# Altium footprint library PCB_Potentiostat_revA.PcbLib: 38 footprints (part 2 of 3)
Each footprint in its own frame and in the unit in brackets; x right, y up, seen from the top. Pads: shape width x height; smd on the part's side, far side on the other; paste and mask are expansions set on the pad; w line width, h text height; cw(c..) or ccw(c..) is an arc to the next point about the centre after c.
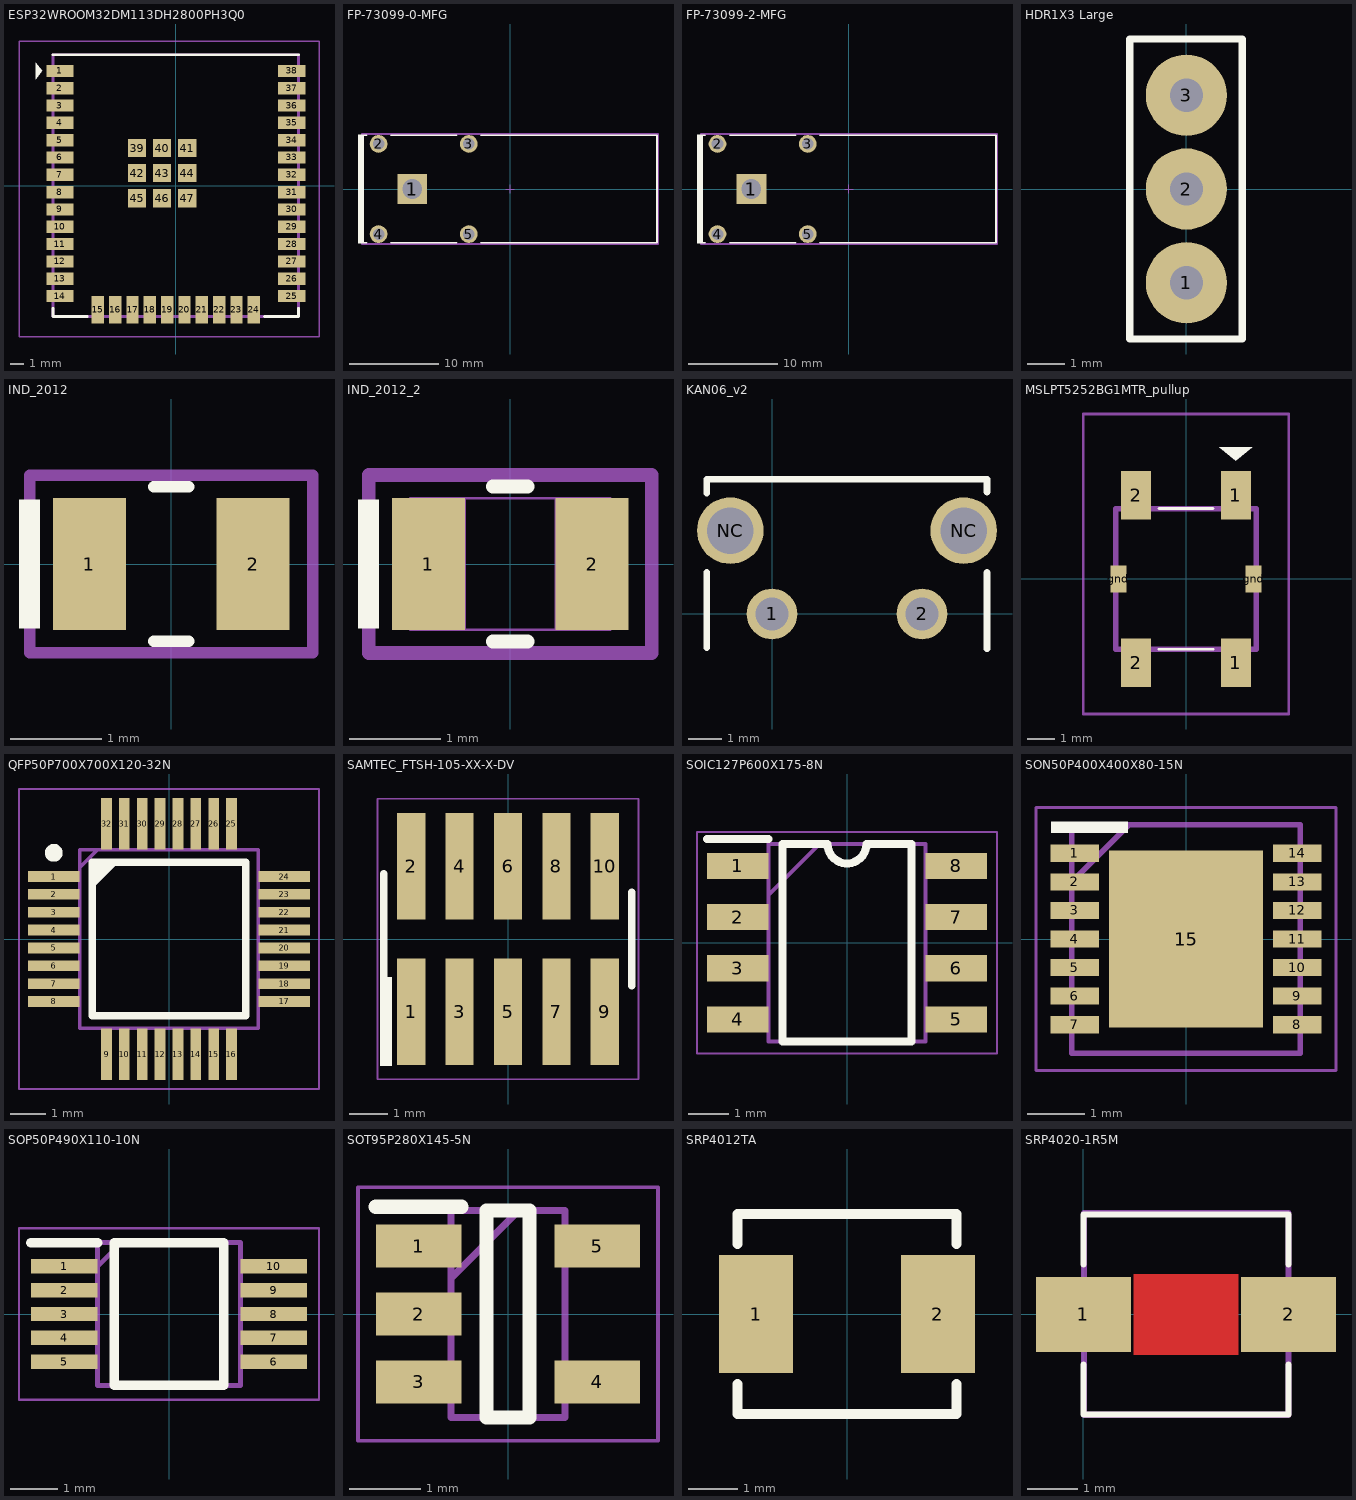
[diagram p1: the footprints below, top view; thin cyan lines are the x and y axes]

## ESP32WROOM32DM113DH2800PH3Q0 [mm]
height 1.5
pads (47):
  rect 2x0.9 smd: 1(-8.5,8.41) 2(-8.5,7.14) 3(-8.5,5.87) 4(-8.5,4.6) 5(-8.5,3.33) 6(-8.5,2.06) 7(-8.5,0.79) 8(-8.5,-0.48) 9(-8.5,-1.75) 10(-8.5,-3.02) 11(-8.5,-4.29) 12(-8.5,-5.56) 13(-8.5,-6.83) 14(-8.5,-8.1) 25(8.5,-8.1) 26(8.5,-6.83) 27(8.5,-5.56) 28(8.5,-4.29) 29(8.5,-3.02) 30(8.5,-1.75) 31(8.5,-0.48) 32(8.5,0.79) 33(8.5,2.06) 34(8.5,3.33) 35(8.5,4.6) 36(8.5,5.87) 37(8.5,7.14) 38(8.5,8.41)
  rect 0.9x2 smd: 15(-5.715,-9.1) 16(-4.445,-9.1) 17(-3.175,-9.1) 18(-1.905,-9.1) 19(-0.635,-9.1) 20(0.635,-9.1) 21(1.905,-9.1) 22(3.175,-9.1) 23(4.445,-9.1) 24(5.715,-9.1)
  rect 1.33x1.33 smd: 39(-2.835,2.745) 40(-1,2.745) 41(0.835,2.745) 42(-2.835,0.91) 43(-1,0.91) 44(0.835,0.91) 45(-2.835,-0.925) 46(-1,-0.925) 47(0.835,-0.925)
Top Overlay:
  region: -9.779,8.407 -10.262,9.017 -10.262,7.798
  lines w0.203: -9,-9 -9,-9.6 -6.5,-9.6 ; -9,9.6 9,9.6 ; 6.5,-9.6 9,-9.6 9,-9
Mechanical 13:
  lines w0.1: -11.5,-11.1 -11.5,10.6 10.5,10.6 10.5,-11.1 -11.5,-11.1
  lines w0.2: -9,-9.6 9,-9.6 9,9.6 -9,9.6 -9,-9.6
3D body "ESP32-WROOM-32D_M113DH2800PH3Q0_.stp": height 3.1, standoff 0, extent -9,-9.6 9,15.9

## FP-73099-0-MFG [mm]
height 1.5
pads (5):
  rect 3.35x3.35 hole 2.2 paste-1000 mask+0: 1(-11,0)
  round 2 hole 1.3 paste-1000 mask+0: 2(-14.8,5.08) 3(-4.64,5.08) 4(-14.8,-5.08) 5(-4.64,-5.08)
Top Overlay:
  rectangle: -17.12,-6.147 -16.459,6.147
  lines w0.2: -16.175,-6.064 -16.564,-6.064 -16.564,6.064 -16.175,6.064 ; -13.425,-6.064 -6.015,-6.064 ; -13.425,6.064 -6.015,6.064 ; -3.265,-6.064 16.564,-6.064 16.564,6.064 -3.265,6.064
Mechanical 13:
  lines w0.1: -0.5,0 0.5,0 ; 0,-0.5 0,0.5
  lines w0.2: -16.663,-6.18 -16.663,6.18 16.663,6.18 16.663,-6.18 -16.663,-6.18
  text ".Designator" at 0,0.011 h1
Mechanical 15:
  lines w0.2: -16.663,-6.18 -16.663,6.18 16.663,6.18 16.663,-6.18 -16.663,-6.18
3D body "Conn_Pomona_Electronics_73099-0_eec.STEP": height 11.66, standoff -3.4, extent -16.5,-6 16.5,6

## FP-73099-2-MFG [mm]
height 1.5
pads (5):
  rect 3.35x3.35 hole 2.2 paste-1000 mask+0: 1(-10.986,0)
  round 2 hole 1.3 paste-1000 mask+0: 2(-14.795,5.08) 3(-4.635,5.08) 4(-14.795,-5.08) 5(-4.635,-5.08)
Top Overlay:
  rectangle: -17.105,-6.147 -16.445,6.147
  lines w0.2: -16.171,-6.058 -16.561,-6.058 -16.561,6.058 -16.171,6.058 ; -13.42,-6.058 -6.011,-6.058 ; -13.42,6.058 -6.011,6.058 ; -3.26,-6.058 16.561,-6.058 16.561,6.058 -3.26,6.058
Mechanical 13:
  lines w0.1: -0.5,0 0.5,0 ; 0,-0.5 0,0.5
  lines w0.2: -16.661,-6.18 -16.661,6.18 16.661,6.18 16.661,-6.18 -16.661,-6.18
  text ".Designator" at 0,0.011 h1
Mechanical 15:
  lines w0.2: -16.661,-6.18 -16.661,6.18 16.661,6.18 16.661,-6.18 -16.661,-6.18
3D body "Conn_Pomona_Electronics_73099-2_eec.STEP": height 11.66, standoff -3.4, extent -16.5,-6 16.5,6

## HDR1X3 Large [mm] "Connector; Header; 5x2 Position"
height 1.5
pads (3):
  round 2.2 hole 0.9: 1(0,-2.54) 2(0,0) 3(0,2.54)
Top Overlay:
  lines w0.2: -1.532,-4.064 -1.532,4.064 1.508,4.064 1.508,-4.064 -1.532,-4.064

## IND_2012 [mm]
height 1.5
pads (2):
  rect 0.803x1.45 smd: 1(-0.902,0) 2(0.902,0)
Top Overlay:
  rectangle: -1.676,-0.711 -1.448,0.711
  lines w0.127: -0.192,-0.852 0.192,-0.852 ; -0.192,0.852 0.192,0.852
Mechanical 13:
  lines w0.127: -1.557,-0.979 1.557,-0.979 1.557,0.979 -1.557,0.979 -1.557,-0.979
3D body "74479023.stp": height 1.25, standoff 0, extent -1,-0.625 1,0.625

## IND_2012_2 [mm]
pads (2):
  rect 0.803x1.45 smd: 1(-0.902,0) 2(0.902,0)
Top Overlay:
  rectangle: -1.676,-0.711 -1.448,0.711
  lines w0.152: -0.192,-0.852 0.192,-0.852 ; -0.192,0.852 0.192,0.852
Mechanical 13:
  circle w0: c-0.775,0 r0.076
  lines w0.025: -1.1,-0.725 -1.1,0.725 ; -1.1,-0.725 1.1,-0.725 ; -1.1,-0.725 -0.5,-0.725 -0.5,0.725 -1.1,0.725 ; -1.1,-0.725 -1.1,0.725 ; -1.1,0.725 1.1,0.725 ; 1.1,-0.725 1.1,0.725 ; 1.1,-0.725 1.1,0.725 ; 1.1,-0.725 0.5,-0.725 0.5,0.725 1.1,0.725
  lines w0.152: -1.557,-0.979 1.557,-0.979 1.557,0.979 -1.557,0.979 -1.557,-0.979

## KAN06_v2 [mm]
height 1.5
pads (4):
  round 1.524 hole 1: 1(0,0) 2(4.5,0)
  round 2 hole 1.4: NC(-1.25,2.5) NC(5.75,2.5)
Top Overlay:
  lines w0.203: -1.956,-1.016 -1.956,1.245 ; -1.956,3.632 -1.956,4.039 6.452,4.039 6.452,3.658 ; 6.452,-1.041 6.452,1.245
Mechanical 13:
  text "BOARD" at -0.025,-1.93 h1.02
3D body "KAN0631 - 0731B.stp": height 6, standoff -5, extent -1.939,-6.275 6.45,4.025

## MSLPT5252BG1MTR_pullup [mm]
height 1.5
pads (6):
  rect 1.1x1.8 smd: 1(1.85,-3.1) 1(1.85,3.1) 2(-1.85,-3.1) 2(-1.85,3.1)
  rect 0.6x1 smd: gnd(-2.5,0) gnd(2.5,0)
Top Overlay:
  region: 1.847,4.379 2.457,4.862 1.238,4.862
  lines w0.1: -1,-2.6 1,-2.6 ; -1,2.6 1,2.6
Mechanical 13:
  lines w0.1: -3.8,-5 -3.8,6.1 3.8,6.1 3.8,-5 -3.8,-5
  lines w0.2: -2.6,-2.6 -2.6,2.6 2.6,2.6 2.6,-2.6 -2.6,-2.6
3D body "MSLPT5252BG1MTR.stp": height 1.8, standoff 0, extent -2.74,-3.89 2.74,3.89

## QFP50P700X700X120-32N [mm]
height 1.5
pads (32):
  rect 1.45x0.3 smd: 1(-3.225,1.75) 2(-3.225,1.25) 3(-3.225,0.75) 4(-3.225,0.25) 5(-3.225,-0.25) 6(-3.225,-0.75) 7(-3.225,-1.25) 8(-3.225,-1.75) 17(3.225,-1.75) 18(3.225,-1.25) 19(3.225,-0.75) 20(3.225,-0.25) 21(3.225,0.25) 22(3.225,0.75) 23(3.225,1.25) 24(3.225,1.75)
  rect 0.3x1.45 smd: 9(-1.75,-3.225) 10(-1.25,-3.225) 11(-0.75,-3.225) 12(-0.25,-3.225) 13(0.25,-3.225) 14(0.75,-3.225) 15(1.25,-3.225) 16(1.75,-3.225) 25(1.75,3.225) 26(1.25,3.225) 27(0.75,3.225) 28(0.25,3.225) 29(-0.25,3.225) 30(-0.75,3.225) 31(-1.25,3.225) 32(-1.75,3.225)
Top Overlay:
  circle w0.25: c-3.226,2.413 r0.125
  region: -2.15,2.15 -2.159,1.397 -1.397,2.159
  lines w0.2: -2.15,-2.15 -2.15,2.15 2.15,2.15 2.15,-2.15 -2.15,-2.15
Mechanical 13:
  lines w0.05: -4.2,-4.2 -4.2,4.2 4.2,4.2 4.2,-4.2 -4.2,-4.2
  lines w0.1: -2.5,2 -2,2.5 ; -2.5,-2.5 -2.5,2.5 2.5,2.5 2.5,-2.5 -2.5,-2.5
3D body "ADS131A02IPBS.stp": height 1.12, standoff 0.03, extent -3.5,-3.5 3.5,3.5

## SAMTEC_FTSH-105-XX-X-DV [mm]
height 1.5
pads (10):
  rect 0.74x2.79 smd: 1(-2.54,-1.905) 2(-2.54,1.905) 3(-1.27,-1.905) 4(-1.27,1.905) 5(0,-1.905) 6(0,1.905) 7(1.27,-1.905) 8(1.27,1.905) 9(2.54,-1.905) 10(2.54,1.905)
Top Overlay:
  rectangle: -3.353,-3.327 -3.048,-0.991
  lines w0.2: -3.26,-1.715 -3.26,1.715 ; 3.251,-1.219 3.251,1.219
Mechanical 13:
  lines w0.05: -3.425,-3.68 -3.425,3.68 3.425,3.68 3.425,-3.68 -3.425,-3.68
3D body "step_temp.STEP": height 5.94, standoff -0.03, extent -3.175,-2.921 3.175,2.921

## SOIC127P600X175-8N [mm]
pads (8):
  rect 1.525x0.65 smd: 1(-2.712,1.905) 2(-2.712,0.635) 3(-2.712,-0.635) 4(-2.712,-1.905) 5(2.712,-1.905) 6(2.712,-0.635) 7(2.712,0.635) 8(2.712,1.905)
Top Overlay:
  lines w0.2: -3.475,2.58 -1.95,2.58 ; -0.483,2.45 -1.6,2.45 -1.6,-2.45 1.6,-2.45 1.6,2.45 0.483,2.45
  lines w0.203: -0.483,2.45 ccw(c0,2.45) 0.483,2.45
Mechanical 13:
  lines w0.05: -3.725,-2.75 -3.725,2.75 3.725,2.75 3.725,-2.75 -3.725,-2.75
  lines w0.1: -1.95,1.18 -0.68,2.45 ; -1.95,-2.45 -1.95,2.45 1.95,2.45 1.95,-2.45 -1.95,-2.45
3D body "OP275GSZ.stp": height 1.75, standoff 0, extent -3,-2.45 3,2.45

## SON50P400X400X80-15N [mm]
height 1.5
pads (15):
  rect 0.85x0.3 smd: 1(-1.95,1.5) 2(-1.95,1) 3(-1.95,0.5) 4(-1.95,0) 5(-1.95,-0.5) 6(-1.95,-1) 7(-1.95,-1.5) 8(1.95,-1.5) 9(1.95,-1) 10(1.95,-0.5) 11(1.95,0) 12(1.95,0.5) 13(1.95,1) 14(1.95,1.5)
  rect 2.7x3.1 smd: 15(0,0)
Top Overlay:
  rectangle: -2.362,1.854 -1.016,2.057
Mechanical 13:
  lines w0.05: -2.625,-2.3 2.625,-2.3 2.625,2.3 -2.625,2.3 -2.625,-2.3
  lines w0.1: -2,1 -1,2 ; -2,-2 2,-2 2,2 -2,2 -2,-2
3D body "LMP91000SDE_NOPB.stp": height 2, standoff -2, extent -2,0 2,0.8

## SOP50P490X110-10N [mm]
height 1.5
pads (10):
  rect 1.4x0.3 smd: 1(-2.2,1) 2(-2.2,0.5) 3(-2.2,0) 4(-2.2,-0.5) 5(-2.2,-1) 6(2.2,-1) 7(2.2,-0.5) 8(2.2,0) 9(2.2,0.5) 10(2.2,1)
Top Overlay:
  lines w0.2: -2.9,1.5 -1.5,1.5 ; -1.15,-1.5 -1.15,1.5 1.15,1.5 1.15,-1.5 -1.15,-1.5
Mechanical 13:
  lines w0.05: -3.15,-1.8 3.15,-1.8 3.15,1.8 -3.15,1.8 -3.15,-1.8
  lines w0.1: -1.5,1 -1,1.5 ; -1.5,-1.5 -1.5,1.5 1.5,1.5 1.5,-1.5 -1.5,-1.5

## SOT95P280X145-5N [mm]
height 1.5
pads (5):
  rect 1.2x0.6 smd: 1(-1.25,0.95) 2(-1.25,0) 3(-1.25,-0.95) 4(1.25,-0.95) 5(1.25,0.95)
Top Overlay:
  lines w0.2: -1.85,1.5 -0.65,1.5 ; -0.3,-1.45 -0.3,1.45 0.3,1.45 0.3,-1.45 -0.3,-1.45
Mechanical 13:
  lines w0.05: -2.1,-1.775 -2.1,1.775 2.1,1.775 2.1,-1.775 -2.1,-1.775
  lines w0.1: -0.8,0.5 0.15,1.45 ; -0.8,-1.45 -0.8,1.45 0.8,1.45 0.8,-1.45 -0.8,-1.45
3D body "LM2735XMF_NOPB.stp": height 1.2, standoff 0, extent -1.4,-1.45 1.4,1.45

## SRP4012TA [mm] "BOURNS"
height 1.2
pads (2):
  rect 1.5x2.4 smd: 1(-1.85,0) 2(1.85,0)
Top Overlay:
  lines w0.2: -2.225,-2.03 2.225,-2.03 ; -2.225,-2.025 -2.225,-1.425 ; -2.225,1.425 -2.225,2.025 ; -2.225,2.03 2.225,2.03 2.225,1.425 ; 2.225,-2.025 2.225,-1.425
3D body: height 1.2, standoff 0, extent -2.225,-2.025 2.225,2.025

## SRP4020-1R5M [mm]
pads (2):
  rect 1.9x1.5 smd: 1(0,0) 2(4.1,0)
Top Layer:
  pour cut-out: 1,0.8 3.1,0.8 3.1,-0.8 1,-0.8
Top Overlay:
  lines w0.127: 0,-1 0,-2 4.1,-2 4.1,-1 ; 0,1 0,2 4.1,2 4.1,1
Mechanical 13:
  lines w0.127: 0.01,-2.005 0.01,2.025 4.1,2.025 4.1,-2.005 0.01,-2.005
  text ".Designator" at 0.55,1.275 h0.3
3D body: height 2, standoff 0.3, extent 0.05,-2 4.05,2